# Altium integrated library Renesas Microcontroller R8C.IntLib: 628 symbols (part 22 of 33)
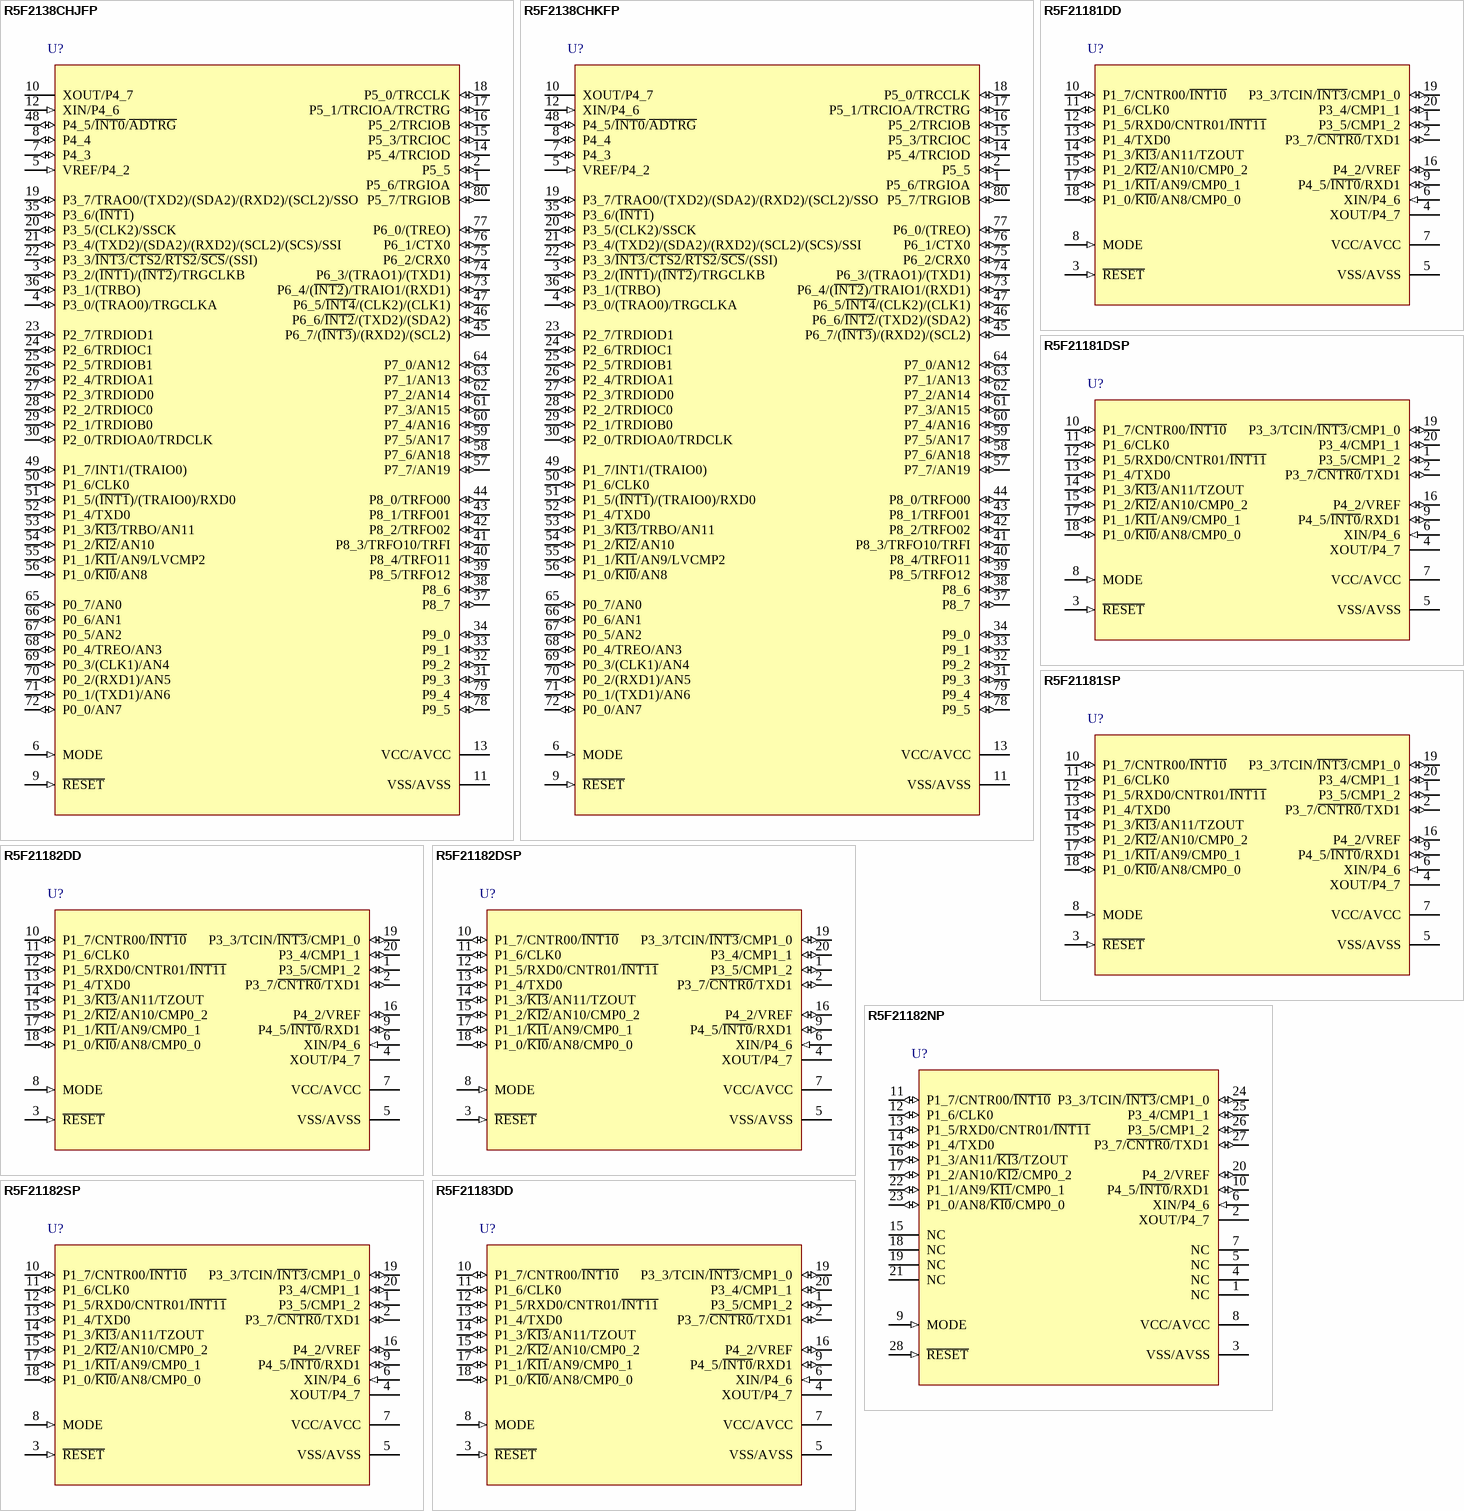
[diagram p137: symbols R5F2138CHJFP to R5F21183DD]

## R5F21182DSP
designator U?
R8C/18 Group Single Chip 16-Bit CMOS MCU, 8K ROM, D Version; Published: 30-Oct-2009; DatasheetVersion: Rev.1.40, Apr-2006; PackageVersion: Sep-2005; PackageReference: PLSP0020JB-A; Publisher: Altium Limited; PackageDescription: 20-Pin Plastic Low Profile Shrink SOP, 6.5 x 4.4 x 1.15 mm Body, 0.65 mm Pitch; Code_JEITA: P-LSSOP20-4.4x6.5-0.65; Code_JEDEC: MO-152-AC; ComponentLink1Description: Manufacturer Link; ComponentLink1URL: http://sg.renesas.com/fmwk.jsp?cnt=r8c_family_landing.jsp&fp=/products/mpumcu/r8c_family/; ComponentLink2Description: Datasheet; ComponentLink2URL: http://documentation.renesas.com/eng/products/mpumcu/rej03b0124_r8c1819ds.pdf; ComponentLink3Description: Packaging Specification; ComponentLink3URL: http://sg.renesas.com/media/products/common_info/package/pdf/ic/code/plsp0020jb_a.pdf
footprint PLSP0020JB-A_N (SOP, 20-Leads, Body 6.5x4.4mm, Pitch 0.65mm, IPC Medium Density)
footprint PLSP0020JB-A_L (SOP, 20-Leads, Body 6.5x4.4mm, Pitch 0.65mm, IPC High Density)
footprint PLSP0020JB-A_M (SOP, 20-Leads, Body 6.5x4.4mm, Pitch 0.65mm, IPC Low Density)
pins: 1 P3_5/CMP1_2 (io), 2 P3_7/~{CNTR0}/TXD1 (io), 3 ~{RESET} (in), 4 XOUT/P4_7, 5 VSS/AVSS (power), 6 XIN/P4_6 (in), 7 VCC/AVCC (power), 8 MODE (in), 9 P4_5/~{INT0}/RXD1 (io), 10 P1_7/CNTR00/~{INT10} (io), 11 P1_6/CLK0 (io), 12 P1_5/RXD0/CNTR01/~{INT11} (io), 13 P1_4/TXD0 (io), 14 P1_3/~{KI3}/AN11/TZOUT (io), 15 P1_2/~{KI2}/AN10/CMP0_2 (io), 16 P4_2/VREF (io), 17 P1_1/~{KI1}/AN9/CMP0_1 (io), 18 P1_0/~{KI0}/AN8/CMP0_0 (io), 19 P3_3/TCIN/~{INT3}/CMP1_0 (io), 20 P3_4/CMP1_1 (io)

## R5F21182NP
designator U?
R8C/18 Group Single Chip 16-Bit CMOS MCU, 8K ROM, Standard Version; Published: 30-Oct-2009; DatasheetVersion: Rev.1.40, Apr-2006; PackageVersion: Jun-2006; PackageReference: PWQN0028KA-B; Publisher: Altium Limited; PackageDescription: 28-Pin Plastic Very-very Thin QFN, 5 x 5 X 0.75 mm Body, 0.5 mm Pitch, Exposed Pad; Code_JEITA: P-HWQFN28-5x5-0.50; ComponentLink1Description: Manufacturer Link; ComponentLink1URL: http://sg.renesas.com/fmwk.jsp?cnt=r8c_family_landing.jsp&fp=/products/mpumcu/r8c_family/; ComponentLink2Description: Datasheet; ComponentLink2URL: http://documentation.renesas.com/eng/products/mpumcu/rej03b0124_r8c1819ds.pdf; ComponentLink3Description: Packaging Specification; ComponentLink3URL: http://sg.renesas.com/media/products/common_info/package/pdf/ic/code/pwqn0028ka_b.pdf
footprint PWQN0028KA-B_N (QFN, 28-Leads, Body 5x5mm, Pitch 0.5mm, IPC Medium Density)
footprint PWQN0028KA-B_L (QFN, 28-Leads, Body 5x5mm, Pitch 0.5mm, IPC High Density)
footprint PWQN0028KA-B_M (QFN, 28-Leads, Body 5x5mm, Pitch 0.5mm, IPC Low Density)
pins: 1 NC, 2 XOUT/P4_7, 3 VSS/AVSS (power), 4 NC, 5 NC, 6 XIN/P4_6 (in), 7 NC, 8 VCC/AVCC (power), 9 MODE (in), 10 P4_5/~{INT0}/RXD1 (io), 11 P1_7/CNTR00/~{INT10} (io), 12 P1_6/CLK0 (io), 13 P1_5/RXD0/CNTR01/~{INT11} (io), 14 P1_4/TXD0 (io), 15 NC, 16 P1_3/AN11/~{KI3}/TZOUT (io), 17 P1_2/AN10/~{KI2}/CMP0_2 (io), 18 NC, 19 NC, 20 P4_2/VREF (io), 21 NC, 22 P1_1/AN9/~{KI1}/CMP0_1 (io), 23 P1_0/AN8/~{KI0}/CMP0_0 (io), 24 P3_3/TCIN/~{INT3}/CMP1_0 (io), 25 P3_4/CMP1_1 (io), 26 P3_5/CMP1_2 (io), 27 P3_7/~{CNTR0}/TXD1 (io), 28 ~{RESET} (in)

## R5F21182SP
designator U?
R8C/18 Group Single Chip 16-Bit CMOS MCU, 8K ROM, Standard Version; Published: 30-Oct-2009; DatasheetVersion: Rev.1.40, Apr-2006; PackageVersion: Sep-2005; PackageReference: PLSP0020JB-A; Publisher: Altium Limited; PackageDescription: 20-Pin Plastic Low Profile Shrink SOP, 6.5 x 4.4 x 1.15 mm Body, 0.65 mm Pitch; Code_JEITA: P-LSSOP20-4.4x6.5-0.65; Code_JEDEC: MO-152-AC; ComponentLink1Description: Manufacturer Link; ComponentLink1URL: http://sg.renesas.com/fmwk.jsp?cnt=r8c_family_landing.jsp&fp=/products/mpumcu/r8c_family/; ComponentLink2Description: Datasheet; ComponentLink2URL: http://documentation.renesas.com/eng/products/mpumcu/rej03b0124_r8c1819ds.pdf; ComponentLink3Description: Packaging Specification; ComponentLink3URL: http://sg.renesas.com/media/products/common_info/package/pdf/ic/code/plsp0020jb_a.pdf
footprint PLSP0020JB-A_N (SOP, 20-Leads, Body 6.5x4.4mm, Pitch 0.65mm, IPC Medium Density)
footprint PLSP0020JB-A_L (SOP, 20-Leads, Body 6.5x4.4mm, Pitch 0.65mm, IPC High Density)
footprint PLSP0020JB-A_M (SOP, 20-Leads, Body 6.5x4.4mm, Pitch 0.65mm, IPC Low Density)
pins: 1 P3_5/CMP1_2 (io), 2 P3_7/~{CNTR0}/TXD1 (io), 3 ~{RESET} (in), 4 XOUT/P4_7, 5 VSS/AVSS (power), 6 XIN/P4_6 (in), 7 VCC/AVCC (power), 8 MODE (in), 9 P4_5/~{INT0}/RXD1 (io), 10 P1_7/CNTR00/~{INT10} (io), 11 P1_6/CLK0 (io), 12 P1_5/RXD0/CNTR01/~{INT11} (io), 13 P1_4/TXD0 (io), 14 P1_3/~{KI3}/AN11/TZOUT (io), 15 P1_2/~{KI2}/AN10/CMP0_2 (io), 16 P4_2/VREF (io), 17 P1_1/~{KI1}/AN9/CMP0_1 (io), 18 P1_0/~{KI0}/AN8/CMP0_0 (io), 19 P3_3/TCIN/~{INT3}/CMP1_0 (io), 20 P3_4/CMP1_1 (io)

## R5F21183DD
designator U?
R8C/18 Group Single Chip 16-Bit CMOS MCU, 12K ROM, Standard Version; Published: 30-Oct-2009; DatasheetVersion: Rev.1.40, Apr-2006; PackageVersion: Sep-2005; PackageReference: PRDP0020BA-A; Publisher: Altium Limited; PackageDescription: 20-Pin Plastic Shrink DIP, 19 x 6.3 mm Body, 7.62 mm Row Spacing, 1.778 mm Pitch; Code_JEITA: P-SDIP20-6.3x19-1.78; ComponentLink1Description: Manufacturer Link; ComponentLink1URL: http://sg.renesas.com/fmwk.jsp?cnt=r8c_family_landing.jsp&fp=/products/mpumcu/r8c_family/; ComponentLink2Description: Datasheet; ComponentLink2URL: http://documentation.renesas.com/eng/products/mpumcu/rej03b0124_r8c1819ds.pdf; ComponentLink3Description: Packaging Specification; ComponentLink3URL: http://sg.renesas.com/media/products/common_info/package/pdf/ic/code/prdp0020ba_a.pdf
footprint PRDP0020BA-A (DIP, 20-Leads, Row Spacing 7.62mm, Pitch 1.778mm, Body 19x6.3mm)
pins: 1 P3_5/CMP1_2 (io), 2 P3_7/~{CNTR0}/TXD1 (io), 3 ~{RESET} (in), 4 XOUT/P4_7, 5 VSS/AVSS (power), 6 XIN/P4_6 (in), 7 VCC/AVCC (power), 8 MODE (in), 9 P4_5/~{INT0}/RXD1 (io), 10 P1_7/CNTR00/~{INT10} (io), 11 P1_6/CLK0 (io), 12 P1_5/RXD0/CNTR01/~{INT11} (io), 13 P1_4/TXD0 (io), 14 P1_3/~{KI3}/AN11/TZOUT (io), 15 P1_2/~{KI2}/AN10/CMP0_2 (io), 16 P4_2/VREF (io), 17 P1_1/~{KI1}/AN9/CMP0_1 (io), 18 P1_0/~{KI0}/AN8/CMP0_0 (io), 19 P3_3/TCIN/~{INT3}/CMP1_0 (io), 20 P3_4/CMP1_1 (io)

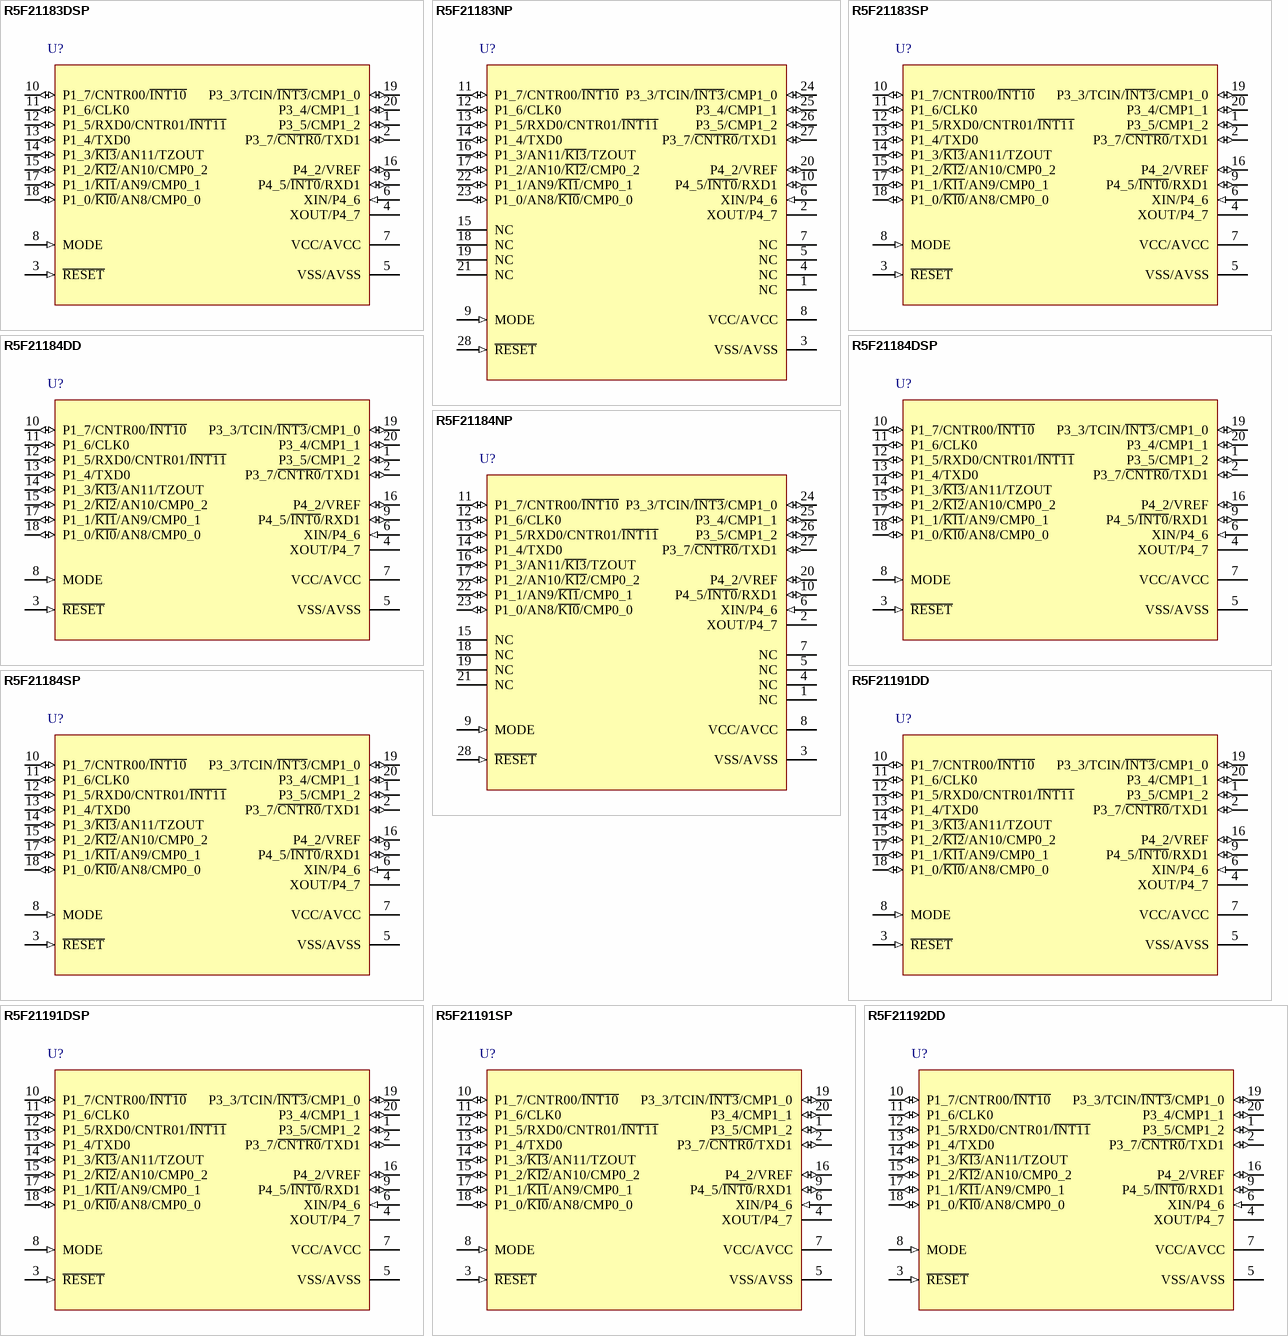
[diagram p77: symbols R5F21183DSP to R5F21192DD]

## R5F21183DSP
designator U?
R8C/18 Group Single Chip 16-Bit CMOS MCU, 12K ROM, D Version; Published: 30-Oct-2009; DatasheetVersion: Rev.1.40, Apr-2006; PackageVersion: Sep-2005; PackageReference: PLSP0020JB-A; Publisher: Altium Limited; PackageDescription: 20-Pin Plastic Low Profile Shrink SOP, 6.5 x 4.4 x 1.15 mm Body, 0.65 mm Pitch; Code_JEITA: P-LSSOP20-4.4x6.5-0.65; Code_JEDEC: MO-152-AC; ComponentLink1Description: Manufacturer Link; ComponentLink1URL: http://sg.renesas.com/fmwk.jsp?cnt=r8c_family_landing.jsp&fp=/products/mpumcu/r8c_family/; ComponentLink2Description: Datasheet; ComponentLink2URL: http://documentation.renesas.com/eng/products/mpumcu/rej03b0124_r8c1819ds.pdf; ComponentLink3Description: Packaging Specification; ComponentLink3URL: http://sg.renesas.com/media/products/common_info/package/pdf/ic/code/plsp0020jb_a.pdf
footprint PLSP0020JB-A_N (SOP, 20-Leads, Body 6.5x4.4mm, Pitch 0.65mm, IPC Medium Density)
footprint PLSP0020JB-A_L (SOP, 20-Leads, Body 6.5x4.4mm, Pitch 0.65mm, IPC High Density)
footprint PLSP0020JB-A_M (SOP, 20-Leads, Body 6.5x4.4mm, Pitch 0.65mm, IPC Low Density)
pins: 1 P3_5/CMP1_2 (io), 2 P3_7/~{CNTR0}/TXD1 (io), 3 ~{RESET} (in), 4 XOUT/P4_7, 5 VSS/AVSS (power), 6 XIN/P4_6 (in), 7 VCC/AVCC (power), 8 MODE (in), 9 P4_5/~{INT0}/RXD1 (io), 10 P1_7/CNTR00/~{INT10} (io), 11 P1_6/CLK0 (io), 12 P1_5/RXD0/CNTR01/~{INT11} (io), 13 P1_4/TXD0 (io), 14 P1_3/~{KI3}/AN11/TZOUT (io), 15 P1_2/~{KI2}/AN10/CMP0_2 (io), 16 P4_2/VREF (io), 17 P1_1/~{KI1}/AN9/CMP0_1 (io), 18 P1_0/~{KI0}/AN8/CMP0_0 (io), 19 P3_3/TCIN/~{INT3}/CMP1_0 (io), 20 P3_4/CMP1_1 (io)

## R5F21183NP
designator U?
R8C/18 Group Single Chip 16-Bit CMOS MCU, 12K ROM, Standard Version; Published: 30-Oct-2009; DatasheetVersion: Rev.1.40, Apr-2006; PackageVersion: Jun-2006; PackageReference: PWQN0028KA-B; Publisher: Altium Limited; PackageDescription: 28-Pin Plastic Very-very Thin QFN, 5 x 5 X 0.75 mm Body, 0.5 mm Pitch, Exposed Pad; Code_JEITA: P-HWQFN28-5x5-0.50; ComponentLink1Description: Manufacturer Link; ComponentLink1URL: http://sg.renesas.com/fmwk.jsp?cnt=r8c_family_landing.jsp&fp=/products/mpumcu/r8c_family/; ComponentLink2Description: Datasheet; ComponentLink2URL: http://documentation.renesas.com/eng/products/mpumcu/rej03b0124_r8c1819ds.pdf; ComponentLink3Description: Packaging Specification; ComponentLink3URL: http://sg.renesas.com/media/products/common_info/package/pdf/ic/code/pwqn0028ka_b.pdf
footprint PWQN0028KA-B_N (QFN, 28-Leads, Body 5x5mm, Pitch 0.5mm, IPC Medium Density)
footprint PWQN0028KA-B_L (QFN, 28-Leads, Body 5x5mm, Pitch 0.5mm, IPC High Density)
footprint PWQN0028KA-B_M (QFN, 28-Leads, Body 5x5mm, Pitch 0.5mm, IPC Low Density)
pins: 1 NC, 2 XOUT/P4_7, 3 VSS/AVSS (power), 4 NC, 5 NC, 6 XIN/P4_6 (in), 7 NC, 8 VCC/AVCC (power), 9 MODE (in), 10 P4_5/~{INT0}/RXD1 (io), 11 P1_7/CNTR00/~{INT10} (io), 12 P1_6/CLK0 (io), 13 P1_5/RXD0/CNTR01/~{INT11} (io), 14 P1_4/TXD0 (io), 15 NC, 16 P1_3/AN11/~{KI3}/TZOUT (io), 17 P1_2/AN10/~{KI2}/CMP0_2 (io), 18 NC, 19 NC, 20 P4_2/VREF (io), 21 NC, 22 P1_1/AN9/~{KI1}/CMP0_1 (io), 23 P1_0/AN8/~{KI0}/CMP0_0 (io), 24 P3_3/TCIN/~{INT3}/CMP1_0 (io), 25 P3_4/CMP1_1 (io), 26 P3_5/CMP1_2 (io), 27 P3_7/~{CNTR0}/TXD1 (io), 28 ~{RESET} (in)

## R5F21183SP
designator U?
R8C/18 Group Single Chip 16-Bit CMOS MCU, 12K ROM, Standard Version; Published: 30-Oct-2009; DatasheetVersion: Rev.1.40, Apr-2006; PackageVersion: Sep-2005; PackageReference: PLSP0020JB-A; Publisher: Altium Limited; PackageDescription: 20-Pin Plastic Low Profile Shrink SOP, 6.5 x 4.4 x 1.15 mm Body, 0.65 mm Pitch; Code_JEITA: P-LSSOP20-4.4x6.5-0.65; Code_JEDEC: MO-152-AC; ComponentLink1Description: Manufacturer Link; ComponentLink1URL: http://sg.renesas.com/fmwk.jsp?cnt=r8c_family_landing.jsp&fp=/products/mpumcu/r8c_family/; ComponentLink2Description: Datasheet; ComponentLink2URL: http://documentation.renesas.com/eng/products/mpumcu/rej03b0124_r8c1819ds.pdf; ComponentLink3Description: Packaging Specification; ComponentLink3URL: http://sg.renesas.com/media/products/common_info/package/pdf/ic/code/plsp0020jb_a.pdf
footprint PLSP0020JB-A_N (SOP, 20-Leads, Body 6.5x4.4mm, Pitch 0.65mm, IPC Medium Density)
footprint PLSP0020JB-A_L (SOP, 20-Leads, Body 6.5x4.4mm, Pitch 0.65mm, IPC High Density)
footprint PLSP0020JB-A_M (SOP, 20-Leads, Body 6.5x4.4mm, Pitch 0.65mm, IPC Low Density)
pins: 1 P3_5/CMP1_2 (io), 2 P3_7/~{CNTR0}/TXD1 (io), 3 ~{RESET} (in), 4 XOUT/P4_7, 5 VSS/AVSS (power), 6 XIN/P4_6 (in), 7 VCC/AVCC (power), 8 MODE (in), 9 P4_5/~{INT0}/RXD1 (io), 10 P1_7/CNTR00/~{INT10} (io), 11 P1_6/CLK0 (io), 12 P1_5/RXD0/CNTR01/~{INT11} (io), 13 P1_4/TXD0 (io), 14 P1_3/~{KI3}/AN11/TZOUT (io), 15 P1_2/~{KI2}/AN10/CMP0_2 (io), 16 P4_2/VREF (io), 17 P1_1/~{KI1}/AN9/CMP0_1 (io), 18 P1_0/~{KI0}/AN8/CMP0_0 (io), 19 P3_3/TCIN/~{INT3}/CMP1_0 (io), 20 P3_4/CMP1_1 (io)

## R5F21184DD
designator U?
R8C/18 Group Single Chip 16-Bit CMOS MCU, 16K ROM, Standard Version; Published: 30-Oct-2009; DatasheetVersion: Rev.1.40, Apr-2006; PackageVersion: Sep-2005; PackageReference: PRDP0020BA-A; Publisher: Altium Limited; PackageDescription: 20-Pin Plastic Shrink DIP, 19 x 6.3 mm Body, 7.62 mm Row Spacing, 1.778 mm Pitch; Code_JEITA: P-SDIP20-6.3x19-1.78; ComponentLink1Description: Manufacturer Link; ComponentLink1URL: http://sg.renesas.com/fmwk.jsp?cnt=r8c_family_landing.jsp&fp=/products/mpumcu/r8c_family/; ComponentLink2Description: Datasheet; ComponentLink2URL: http://documentation.renesas.com/eng/products/mpumcu/rej03b0124_r8c1819ds.pdf; ComponentLink3Description: Packaging Specification; ComponentLink3URL: http://sg.renesas.com/media/products/common_info/package/pdf/ic/code/prdp0020ba_a.pdf
footprint PRDP0020BA-A (DIP, 20-Leads, Row Spacing 7.62mm, Pitch 1.778mm, Body 19x6.3mm)
pins: 1 P3_5/CMP1_2 (io), 2 P3_7/~{CNTR0}/TXD1 (io), 3 ~{RESET} (in), 4 XOUT/P4_7, 5 VSS/AVSS (power), 6 XIN/P4_6 (in), 7 VCC/AVCC (power), 8 MODE (in), 9 P4_5/~{INT0}/RXD1 (io), 10 P1_7/CNTR00/~{INT10} (io), 11 P1_6/CLK0 (io), 12 P1_5/RXD0/CNTR01/~{INT11} (io), 13 P1_4/TXD0 (io), 14 P1_3/~{KI3}/AN11/TZOUT (io), 15 P1_2/~{KI2}/AN10/CMP0_2 (io), 16 P4_2/VREF (io), 17 P1_1/~{KI1}/AN9/CMP0_1 (io), 18 P1_0/~{KI0}/AN8/CMP0_0 (io), 19 P3_3/TCIN/~{INT3}/CMP1_0 (io), 20 P3_4/CMP1_1 (io)

## R5F21184DSP
designator U?
R8C/18 Group Single Chip 16-Bit CMOS MCU, 16K ROM, D Version; Published: 30-Oct-2009; DatasheetVersion: Rev.1.40, Apr-2006; PackageVersion: Sep-2005; PackageReference: PLSP0020JB-A; Publisher: Altium Limited; PackageDescription: 20-Pin Plastic Low Profile Shrink SOP, 6.5 x 4.4 x 1.15 mm Body, 0.65 mm Pitch; Code_JEITA: P-LSSOP20-4.4x6.5-0.65; Code_JEDEC: MO-152-AC; ComponentLink1Description: Manufacturer Link; ComponentLink1URL: http://sg.renesas.com/fmwk.jsp?cnt=r8c_family_landing.jsp&fp=/products/mpumcu/r8c_family/; ComponentLink2Description: Datasheet; ComponentLink2URL: http://documentation.renesas.com/eng/products/mpumcu/rej03b0124_r8c1819ds.pdf; ComponentLink3Description: Packaging Specification; ComponentLink3URL: http://sg.renesas.com/media/products/common_info/package/pdf/ic/code/plsp0020jb_a.pdf
footprint PLSP0020JB-A_N (SOP, 20-Leads, Body 6.5x4.4mm, Pitch 0.65mm, IPC Medium Density)
footprint PLSP0020JB-A_L (SOP, 20-Leads, Body 6.5x4.4mm, Pitch 0.65mm, IPC High Density)
footprint PLSP0020JB-A_M (SOP, 20-Leads, Body 6.5x4.4mm, Pitch 0.65mm, IPC Low Density)
pins: 1 P3_5/CMP1_2 (io), 2 P3_7/~{CNTR0}/TXD1 (io), 3 ~{RESET} (in), 4 XOUT/P4_7, 5 VSS/AVSS (power), 6 XIN/P4_6 (in), 7 VCC/AVCC (power), 8 MODE (in), 9 P4_5/~{INT0}/RXD1 (io), 10 P1_7/CNTR00/~{INT10} (io), 11 P1_6/CLK0 (io), 12 P1_5/RXD0/CNTR01/~{INT11} (io), 13 P1_4/TXD0 (io), 14 P1_3/~{KI3}/AN11/TZOUT (io), 15 P1_2/~{KI2}/AN10/CMP0_2 (io), 16 P4_2/VREF (io), 17 P1_1/~{KI1}/AN9/CMP0_1 (io), 18 P1_0/~{KI0}/AN8/CMP0_0 (io), 19 P3_3/TCIN/~{INT3}/CMP1_0 (io), 20 P3_4/CMP1_1 (io)

## R5F21184NP
designator U?
R8C/18 Group Single Chip 16-Bit CMOS MCU, 16K ROM, Standard Version; Published: 30-Oct-2009; DatasheetVersion: Rev.1.40, Apr-2006; PackageVersion: Jun-2006; PackageReference: PWQN0028KA-B; Publisher: Altium Limited; PackageDescription: 28-Pin Plastic Very-very Thin QFN, 5 x 5 X 0.75 mm Body, 0.5 mm Pitch, Exposed Pad; Code_JEITA: P-HWQFN28-5x5-0.50; ComponentLink1Description: Manufacturer Link; ComponentLink1URL: http://sg.renesas.com/fmwk.jsp?cnt=r8c_family_landing.jsp&fp=/products/mpumcu/r8c_family/; ComponentLink2Description: Datasheet; ComponentLink2URL: http://documentation.renesas.com/eng/products/mpumcu/rej03b0124_r8c1819ds.pdf; ComponentLink3Description: Packaging Specification; ComponentLink3URL: http://sg.renesas.com/media/products/common_info/package/pdf/ic/code/pwqn0028ka_b.pdf
footprint PWQN0028KA-B_N (QFN, 28-Leads, Body 5x5mm, Pitch 0.5mm, IPC Medium Density)
footprint PWQN0028KA-B_L (QFN, 28-Leads, Body 5x5mm, Pitch 0.5mm, IPC High Density)
footprint PWQN0028KA-B_M (QFN, 28-Leads, Body 5x5mm, Pitch 0.5mm, IPC Low Density)
pins: 1 NC, 2 XOUT/P4_7, 3 VSS/AVSS (power), 4 NC, 5 NC, 6 XIN/P4_6 (in), 7 NC, 8 VCC/AVCC (power), 9 MODE (in), 10 P4_5/~{INT0}/RXD1 (io), 11 P1_7/CNTR00/~{INT10} (io), 12 P1_6/CLK0 (io), 13 P1_5/RXD0/CNTR01/~{INT11} (io), 14 P1_4/TXD0 (io), 15 NC, 16 P1_3/AN11/~{KI3}/TZOUT (io), 17 P1_2/AN10/~{KI2}/CMP0_2 (io), 18 NC, 19 NC, 20 P4_2/VREF (io), 21 NC, 22 P1_1/AN9/~{KI1}/CMP0_1 (io), 23 P1_0/AN8/~{KI0}/CMP0_0 (io), 24 P3_3/TCIN/~{INT3}/CMP1_0 (io), 25 P3_4/CMP1_1 (io), 26 P3_5/CMP1_2 (io), 27 P3_7/~{CNTR0}/TXD1 (io), 28 ~{RESET} (in)

## R5F21184SP
designator U?
R8C/18 Group Single Chip 16-Bit CMOS MCU, 16K ROM, Standard Version; Published: 30-Oct-2009; DatasheetVersion: Rev.1.40, Apr-2006; PackageVersion: Sep-2005; PackageReference: PLSP0020JB-A; Publisher: Altium Limited; PackageDescription: 20-Pin Plastic Low Profile Shrink SOP, 6.5 x 4.4 x 1.15 mm Body, 0.65 mm Pitch; Code_JEITA: P-LSSOP20-4.4x6.5-0.65; Code_JEDEC: MO-152-AC; ComponentLink1Description: Manufacturer Link; ComponentLink1URL: http://sg.renesas.com/fmwk.jsp?cnt=r8c_family_landing.jsp&fp=/products/mpumcu/r8c_family/; ComponentLink2Description: Datasheet; ComponentLink2URL: http://documentation.renesas.com/eng/products/mpumcu/rej03b0124_r8c1819ds.pdf; ComponentLink3Description: Packaging Specification; ComponentLink3URL: http://sg.renesas.com/media/products/common_info/package/pdf/ic/code/plsp0020jb_a.pdf
footprint PLSP0020JB-A_N (SOP, 20-Leads, Body 6.5x4.4mm, Pitch 0.65mm, IPC Medium Density)
footprint PLSP0020JB-A_L (SOP, 20-Leads, Body 6.5x4.4mm, Pitch 0.65mm, IPC High Density)
footprint PLSP0020JB-A_M (SOP, 20-Leads, Body 6.5x4.4mm, Pitch 0.65mm, IPC Low Density)
pins: 1 P3_5/CMP1_2 (io), 2 P3_7/~{CNTR0}/TXD1 (io), 3 ~{RESET} (in), 4 XOUT/P4_7, 5 VSS/AVSS (power), 6 XIN/P4_6 (in), 7 VCC/AVCC (power), 8 MODE (in), 9 P4_5/~{INT0}/RXD1 (io), 10 P1_7/CNTR00/~{INT10} (io), 11 P1_6/CLK0 (io), 12 P1_5/RXD0/CNTR01/~{INT11} (io), 13 P1_4/TXD0 (io), 14 P1_3/~{KI3}/AN11/TZOUT (io), 15 P1_2/~{KI2}/AN10/CMP0_2 (io), 16 P4_2/VREF (io), 17 P1_1/~{KI1}/AN9/CMP0_1 (io), 18 P1_0/~{KI0}/AN8/CMP0_0 (io), 19 P3_3/TCIN/~{INT3}/CMP1_0 (io), 20 P3_4/CMP1_1 (io)

## R5F21191DD
designator U?
R8C/19 Group Single Chip 16-Bit CMOS MCU, 4K ROM + 1K x2 Data Flash, Standard Version; Published: 30-Oct-2009; DatasheetVersion: Rev.1.40, Apr-2006; PackageVersion: Sep-2005; PackageReference: PRDP0020BA-A; Publisher: Altium Limited; PackageDescription: 20-Pin Plastic Shrink DIP, 19 x 6.3 mm Body, 7.62 mm Row Spacing, 1.778 mm Pitch; Code_JEITA: P-SDIP20-6.3x19-1.78; ComponentLink1Description: Manufacturer Link; ComponentLink1URL: http://sg.renesas.com/fmwk.jsp?cnt=r8c_family_landing.jsp&fp=/products/mpumcu/r8c_family/; ComponentLink2Description: Datasheet; ComponentLink2URL: http://documentation.renesas.com/eng/products/mpumcu/rej03b0124_r8c1819ds.pdf; ComponentLink3Description: Packaging Specification; ComponentLink3URL: http://sg.renesas.com/media/products/common_info/package/pdf/ic/code/prdp0020ba_a.pdf
footprint PRDP0020BA-A (DIP, 20-Leads, Row Spacing 7.62mm, Pitch 1.778mm, Body 19x6.3mm)
pins: 1 P3_5/CMP1_2 (io), 2 P3_7/~{CNTR0}/TXD1 (io), 3 ~{RESET} (in), 4 XOUT/P4_7, 5 VSS/AVSS (power), 6 XIN/P4_6 (in), 7 VCC/AVCC (power), 8 MODE (in), 9 P4_5/~{INT0}/RXD1 (io), 10 P1_7/CNTR00/~{INT10} (io), 11 P1_6/CLK0 (io), 12 P1_5/RXD0/CNTR01/~{INT11} (io), 13 P1_4/TXD0 (io), 14 P1_3/~{KI3}/AN11/TZOUT (io), 15 P1_2/~{KI2}/AN10/CMP0_2 (io), 16 P4_2/VREF (io), 17 P1_1/~{KI1}/AN9/CMP0_1 (io), 18 P1_0/~{KI0}/AN8/CMP0_0 (io), 19 P3_3/TCIN/~{INT3}/CMP1_0 (io), 20 P3_4/CMP1_1 (io)

## R5F21191DSP
designator U?
R8C/19 Group Single Chip 16-Bit CMOS MCU, 4K ROM + 1K x2 Data Flash, D Version; Published: 30-Oct-2009; DatasheetVersion: Rev.1.40, Apr-2006; PackageVersion: Sep-2005; PackageReference: PLSP0020JB-A; Publisher: Altium Limited; PackageDescription: 20-Pin Plastic Low Profile Shrink SOP, 6.5 x 4.4 x 1.15 mm Body, 0.65 mm Pitch; Code_JEITA: P-LSSOP20-4.4x6.5-0.65; Code_JEDEC: MO-152-AC; ComponentLink1Description: Manufacturer Link; ComponentLink1URL: http://sg.renesas.com/fmwk.jsp?cnt=r8c_family_landing.jsp&fp=/products/mpumcu/r8c_family/; ComponentLink2Description: Datasheet; ComponentLink2URL: http://documentation.renesas.com/eng/products/mpumcu/rej03b0124_r8c1819ds.pdf; ComponentLink3Description: Packaging Specification; ComponentLink3URL: http://sg.renesas.com/media/products/common_info/package/pdf/ic/code/plsp0020jb_a.pdf
footprint PLSP0020JB-A_N (SOP, 20-Leads, Body 6.5x4.4mm, Pitch 0.65mm, IPC Medium Density)
footprint PLSP0020JB-A_L (SOP, 20-Leads, Body 6.5x4.4mm, Pitch 0.65mm, IPC High Density)
footprint PLSP0020JB-A_M (SOP, 20-Leads, Body 6.5x4.4mm, Pitch 0.65mm, IPC Low Density)
pins: 1 P3_5/CMP1_2 (io), 2 P3_7/~{CNTR0}/TXD1 (io), 3 ~{RESET} (in), 4 XOUT/P4_7, 5 VSS/AVSS (power), 6 XIN/P4_6 (in), 7 VCC/AVCC (power), 8 MODE (in), 9 P4_5/~{INT0}/RXD1 (io), 10 P1_7/CNTR00/~{INT10} (io), 11 P1_6/CLK0 (io), 12 P1_5/RXD0/CNTR01/~{INT11} (io), 13 P1_4/TXD0 (io), 14 P1_3/~{KI3}/AN11/TZOUT (io), 15 P1_2/~{KI2}/AN10/CMP0_2 (io), 16 P4_2/VREF (io), 17 P1_1/~{KI1}/AN9/CMP0_1 (io), 18 P1_0/~{KI0}/AN8/CMP0_0 (io), 19 P3_3/TCIN/~{INT3}/CMP1_0 (io), 20 P3_4/CMP1_1 (io)

## R5F21191SP
designator U?
R8C/19 Group Single Chip 16-Bit CMOS MCU, 4K ROM + 1K x2 Data Flash, Standard Version; Published: 30-Oct-2009; DatasheetVersion: Rev.1.40, Apr-2006; PackageVersion: Sep-2005; PackageReference: PLSP0020JB-A; Publisher: Altium Limited; PackageDescription: 20-Pin Plastic Low Profile Shrink SOP, 6.5 x 4.4 x 1.15 mm Body, 0.65 mm Pitch; Code_JEITA: P-LSSOP20-4.4x6.5-0.65; Code_JEDEC: MO-152-AC; ComponentLink1Description: Manufacturer Link; ComponentLink1URL: http://sg.renesas.com/fmwk.jsp?cnt=r8c_family_landing.jsp&fp=/products/mpumcu/r8c_family/; ComponentLink2Description: Datasheet; ComponentLink2URL: http://documentation.renesas.com/eng/products/mpumcu/rej03b0124_r8c1819ds.pdf; ComponentLink3Description: Packaging Specification; ComponentLink3URL: http://sg.renesas.com/media/products/common_info/package/pdf/ic/code/plsp0020jb_a.pdf
footprint PLSP0020JB-A_N (SOP, 20-Leads, Body 6.5x4.4mm, Pitch 0.65mm, IPC Medium Density)
footprint PLSP0020JB-A_L (SOP, 20-Leads, Body 6.5x4.4mm, Pitch 0.65mm, IPC High Density)
footprint PLSP0020JB-A_M (SOP, 20-Leads, Body 6.5x4.4mm, Pitch 0.65mm, IPC Low Density)
pins: 1 P3_5/CMP1_2 (io), 2 P3_7/~{CNTR0}/TXD1 (io), 3 ~{RESET} (in), 4 XOUT/P4_7, 5 VSS/AVSS (power), 6 XIN/P4_6 (in), 7 VCC/AVCC (power), 8 MODE (in), 9 P4_5/~{INT0}/RXD1 (io), 10 P1_7/CNTR00/~{INT10} (io), 11 P1_6/CLK0 (io), 12 P1_5/RXD0/CNTR01/~{INT11} (io), 13 P1_4/TXD0 (io), 14 P1_3/~{KI3}/AN11/TZOUT (io), 15 P1_2/~{KI2}/AN10/CMP0_2 (io), 16 P4_2/VREF (io), 17 P1_1/~{KI1}/AN9/CMP0_1 (io), 18 P1_0/~{KI0}/AN8/CMP0_0 (io), 19 P3_3/TCIN/~{INT3}/CMP1_0 (io), 20 P3_4/CMP1_1 (io)

## R5F21192DD
designator U?
R8C/19 Group Single Chip 16-Bit CMOS MCU, 8K ROM + 1K x2 Data Flash, Standard Version; Published: 30-Oct-2009; DatasheetVersion: Rev.1.40, Apr-2006; PackageVersion: Sep-2005; PackageReference: PRDP0020BA-A; Publisher: Altium Limited; PackageDescription: 20-Pin Plastic Shrink DIP, 19 x 6.3 mm Body, 7.62 mm Row Spacing, 1.778 mm Pitch; Code_JEITA: P-SDIP20-6.3x19-1.78; ComponentLink1Description: Manufacturer Link; ComponentLink1URL: http://sg.renesas.com/fmwk.jsp?cnt=r8c_family_landing.jsp&fp=/products/mpumcu/r8c_family/; ComponentLink2Description: Datasheet; ComponentLink2URL: http://documentation.renesas.com/eng/products/mpumcu/rej03b0124_r8c1819ds.pdf; ComponentLink3Description: Packaging Specification; ComponentLink3URL: http://sg.renesas.com/media/products/common_info/package/pdf/ic/code/prdp0020ba_a.pdf
footprint PRDP0020BA-A (DIP, 20-Leads, Row Spacing 7.62mm, Pitch 1.778mm, Body 19x6.3mm)
pins: 1 P3_5/CMP1_2 (io), 2 P3_7/~{CNTR0}/TXD1 (io), 3 ~{RESET} (in), 4 XOUT/P4_7, 5 VSS/AVSS (power), 6 XIN/P4_6 (in), 7 VCC/AVCC (power), 8 MODE (in), 9 P4_5/~{INT0}/RXD1 (io), 10 P1_7/CNTR00/~{INT10} (io), 11 P1_6/CLK0 (io), 12 P1_5/RXD0/CNTR01/~{INT11} (io), 13 P1_4/TXD0 (io), 14 P1_3/~{KI3}/AN11/TZOUT (io), 15 P1_2/~{KI2}/AN10/CMP0_2 (io), 16 P4_2/VREF (io), 17 P1_1/~{KI1}/AN9/CMP0_1 (io), 18 P1_0/~{KI0}/AN8/CMP0_0 (io), 19 P3_3/TCIN/~{INT3}/CMP1_0 (io), 20 P3_4/CMP1_1 (io)

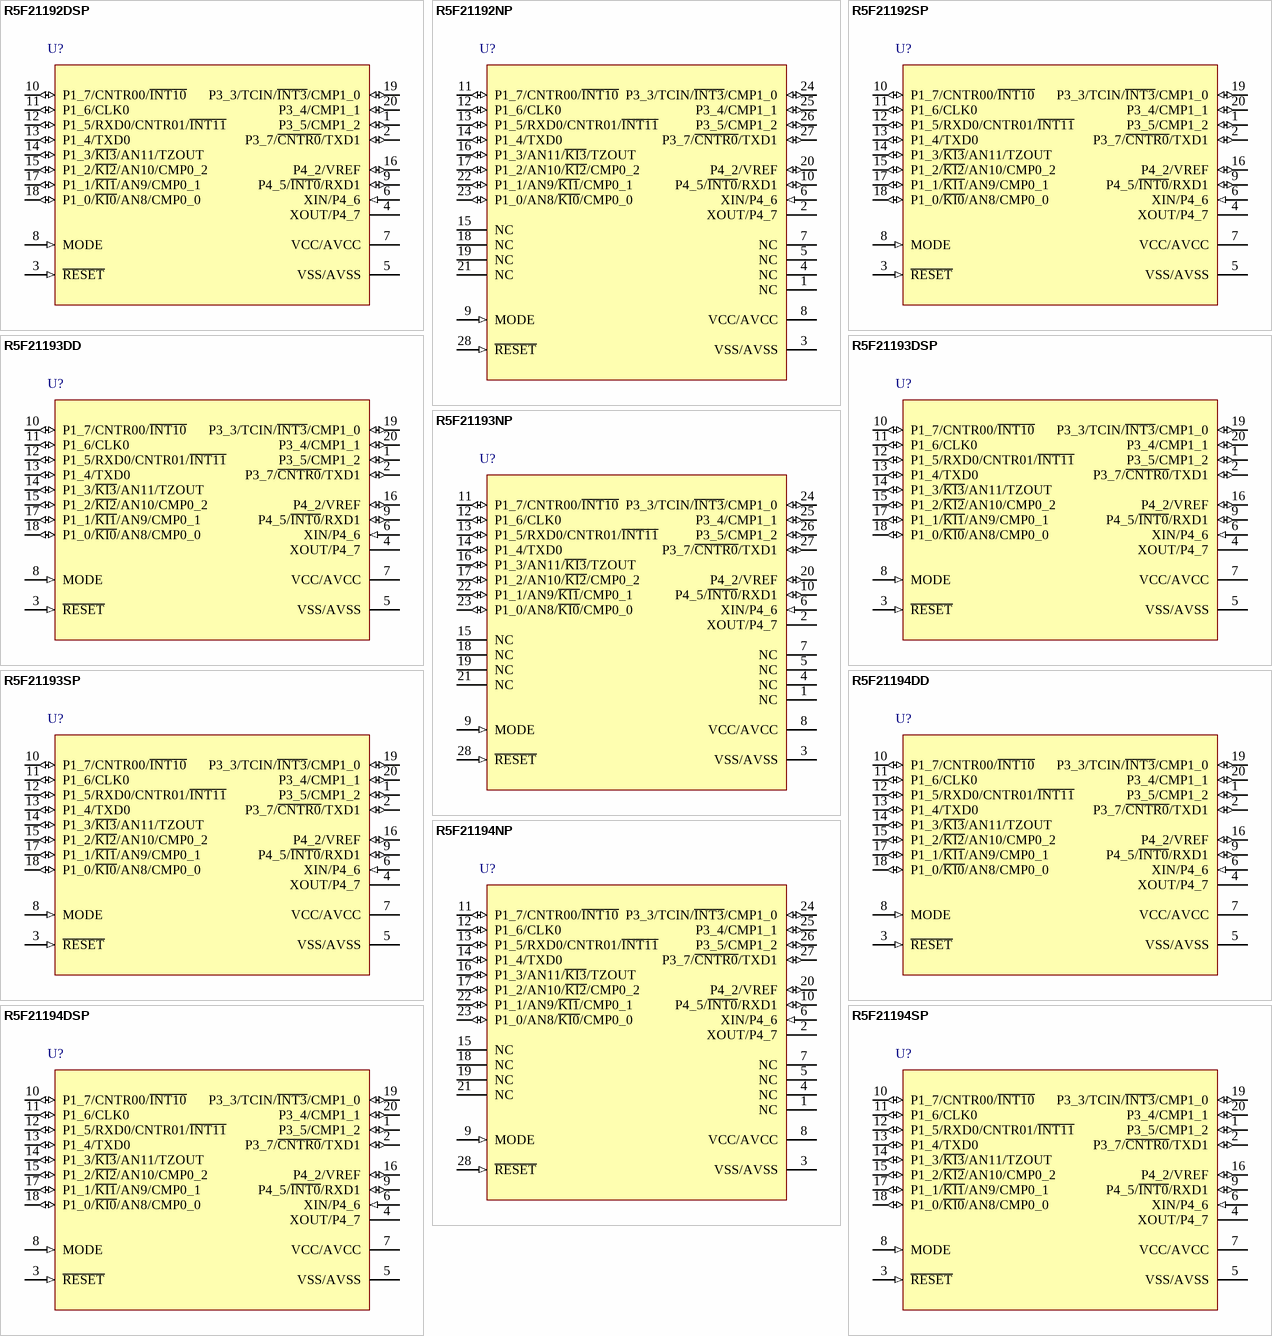
[diagram p78: symbols R5F21192DSP to R5F21194SP]

## R5F21192DSP
designator U?
R8C/19 Group Single Chip 16-Bit CMOS MCU, 8K ROM + 1K x2 Data Flash, D Version; Published: 30-Oct-2009; DatasheetVersion: Rev.1.40, Apr-2006; PackageVersion: Sep-2005; PackageReference: PLSP0020JB-A; Publisher: Altium Limited; PackageDescription: 20-Pin Plastic Low Profile Shrink SOP, 6.5 x 4.4 x 1.15 mm Body, 0.65 mm Pitch; Code_JEITA: P-LSSOP20-4.4x6.5-0.65; Code_JEDEC: MO-152-AC; ComponentLink1Description: Manufacturer Link; ComponentLink1URL: http://sg.renesas.com/fmwk.jsp?cnt=r8c_family_landing.jsp&fp=/products/mpumcu/r8c_family/; ComponentLink2Description: Datasheet; ComponentLink2URL: http://documentation.renesas.com/eng/products/mpumcu/rej03b0124_r8c1819ds.pdf; ComponentLink3Description: Packaging Specification; ComponentLink3URL: http://sg.renesas.com/media/products/common_info/package/pdf/ic/code/plsp0020jb_a.pdf
footprint PLSP0020JB-A_N (SOP, 20-Leads, Body 6.5x4.4mm, Pitch 0.65mm, IPC Medium Density)
footprint PLSP0020JB-A_L (SOP, 20-Leads, Body 6.5x4.4mm, Pitch 0.65mm, IPC High Density)
footprint PLSP0020JB-A_M (SOP, 20-Leads, Body 6.5x4.4mm, Pitch 0.65mm, IPC Low Density)
pins: 1 P3_5/CMP1_2 (io), 2 P3_7/~{CNTR0}/TXD1 (io), 3 ~{RESET} (in), 4 XOUT/P4_7, 5 VSS/AVSS (power), 6 XIN/P4_6 (in), 7 VCC/AVCC (power), 8 MODE (in), 9 P4_5/~{INT0}/RXD1 (io), 10 P1_7/CNTR00/~{INT10} (io), 11 P1_6/CLK0 (io), 12 P1_5/RXD0/CNTR01/~{INT11} (io), 13 P1_4/TXD0 (io), 14 P1_3/~{KI3}/AN11/TZOUT (io), 15 P1_2/~{KI2}/AN10/CMP0_2 (io), 16 P4_2/VREF (io), 17 P1_1/~{KI1}/AN9/CMP0_1 (io), 18 P1_0/~{KI0}/AN8/CMP0_0 (io), 19 P3_3/TCIN/~{INT3}/CMP1_0 (io), 20 P3_4/CMP1_1 (io)

## R5F21192NP
designator U?
R8C/19 Group Single Chip 16-Bit CMOS MCU, 8K ROM + 1K x2 Data Flash, Standard Version; Published: 30-Oct-2009; DatasheetVersion: Rev.1.40, Apr-2006; PackageVersion: Jun-2006; PackageReference: PWQN0028KA-B; Publisher: Altium Limited; PackageDescription: 28-Pin Plastic Very-very Thin QFN, 5 x 5 X 0.75 mm Body, 0.5 mm Pitch, Exposed Pad; Code_JEITA: P-HWQFN28-5x5-0.50; ComponentLink1Description: Manufacturer Link; ComponentLink1URL: http://sg.renesas.com/fmwk.jsp?cnt=r8c_family_landing.jsp&fp=/products/mpumcu/r8c_family/; ComponentLink2Description: Datasheet; ComponentLink2URL: http://documentation.renesas.com/eng/products/mpumcu/rej03b0124_r8c1819ds.pdf; ComponentLink3Description: Packaging Specification; ComponentLink3URL: http://sg.renesas.com/media/products/common_info/package/pdf/ic/code/pwqn0028ka_b.pdf
footprint PWQN0028KA-B_N (QFN, 28-Leads, Body 5x5mm, Pitch 0.5mm, IPC Medium Density)
footprint PWQN0028KA-B_L (QFN, 28-Leads, Body 5x5mm, Pitch 0.5mm, IPC High Density)
footprint PWQN0028KA-B_M (QFN, 28-Leads, Body 5x5mm, Pitch 0.5mm, IPC Low Density)
pins: 1 NC, 2 XOUT/P4_7, 3 VSS/AVSS (power), 4 NC, 5 NC, 6 XIN/P4_6 (in), 7 NC, 8 VCC/AVCC (power), 9 MODE (in), 10 P4_5/~{INT0}/RXD1 (io), 11 P1_7/CNTR00/~{INT10} (io), 12 P1_6/CLK0 (io), 13 P1_5/RXD0/CNTR01/~{INT11} (io), 14 P1_4/TXD0 (io), 15 NC, 16 P1_3/AN11/~{KI3}/TZOUT (io), 17 P1_2/AN10/~{KI2}/CMP0_2 (io), 18 NC, 19 NC, 20 P4_2/VREF (io), 21 NC, 22 P1_1/AN9/~{KI1}/CMP0_1 (io), 23 P1_0/AN8/~{KI0}/CMP0_0 (io), 24 P3_3/TCIN/~{INT3}/CMP1_0 (io), 25 P3_4/CMP1_1 (io), 26 P3_5/CMP1_2 (io), 27 P3_7/~{CNTR0}/TXD1 (io), 28 ~{RESET} (in)

## R5F21192SP
designator U?
R8C/19 Group Single Chip 16-Bit CMOS MCU, 8K ROM + 1K x2 Data Flash, Standard Version; Published: 30-Oct-2009; DatasheetVersion: Rev.1.40, Apr-2006; PackageVersion: Sep-2005; PackageReference: PLSP0020JB-A; Publisher: Altium Limited; PackageDescription: 20-Pin Plastic Low Profile Shrink SOP, 6.5 x 4.4 x 1.15 mm Body, 0.65 mm Pitch; Code_JEITA: P-LSSOP20-4.4x6.5-0.65; Code_JEDEC: MO-152-AC; ComponentLink1Description: Manufacturer Link; ComponentLink1URL: http://sg.renesas.com/fmwk.jsp?cnt=r8c_family_landing.jsp&fp=/products/mpumcu/r8c_family/; ComponentLink2Description: Datasheet; ComponentLink2URL: http://documentation.renesas.com/eng/products/mpumcu/rej03b0124_r8c1819ds.pdf; ComponentLink3Description: Packaging Specification; ComponentLink3URL: http://sg.renesas.com/media/products/common_info/package/pdf/ic/code/plsp0020jb_a.pdf
footprint PLSP0020JB-A_N (SOP, 20-Leads, Body 6.5x4.4mm, Pitch 0.65mm, IPC Medium Density)
footprint PLSP0020JB-A_L (SOP, 20-Leads, Body 6.5x4.4mm, Pitch 0.65mm, IPC High Density)
footprint PLSP0020JB-A_M (SOP, 20-Leads, Body 6.5x4.4mm, Pitch 0.65mm, IPC Low Density)
pins: 1 P3_5/CMP1_2 (io), 2 P3_7/~{CNTR0}/TXD1 (io), 3 ~{RESET} (in), 4 XOUT/P4_7, 5 VSS/AVSS (power), 6 XIN/P4_6 (in), 7 VCC/AVCC (power), 8 MODE (in), 9 P4_5/~{INT0}/RXD1 (io), 10 P1_7/CNTR00/~{INT10} (io), 11 P1_6/CLK0 (io), 12 P1_5/RXD0/CNTR01/~{INT11} (io), 13 P1_4/TXD0 (io), 14 P1_3/~{KI3}/AN11/TZOUT (io), 15 P1_2/~{KI2}/AN10/CMP0_2 (io), 16 P4_2/VREF (io), 17 P1_1/~{KI1}/AN9/CMP0_1 (io), 18 P1_0/~{KI0}/AN8/CMP0_0 (io), 19 P3_3/TCIN/~{INT3}/CMP1_0 (io), 20 P3_4/CMP1_1 (io)

## R5F21193DD
designator U?
R8C/19 Group Single Chip 16-Bit CMOS MCU, 12K ROM + 1K x2 Data Flash, Standard Version; Published: 30-Oct-2009; DatasheetVersion: Rev.1.40, Apr-2006; PackageVersion: Sep-2005; PackageReference: PRDP0020BA-A; Publisher: Altium Limited; PackageDescription: 20-Pin Plastic Shrink DIP, 19 x 6.3 mm Body, 7.62 mm Row Spacing, 1.778 mm Pitch; Code_JEITA: P-SDIP20-6.3x19-1.78; ComponentLink1Description: Manufacturer Link; ComponentLink1URL: http://sg.renesas.com/fmwk.jsp?cnt=r8c_family_landing.jsp&fp=/products/mpumcu/r8c_family/; ComponentLink2Description: Datasheet; ComponentLink2URL: http://documentation.renesas.com/eng/products/mpumcu/rej03b0124_r8c1819ds.pdf; ComponentLink3Description: Packaging Specification; ComponentLink3URL: http://sg.renesas.com/media/products/common_info/package/pdf/ic/code/prdp0020ba_a.pdf
footprint PRDP0020BA-A (DIP, 20-Leads, Row Spacing 7.62mm, Pitch 1.778mm, Body 19x6.3mm)
pins: 1 P3_5/CMP1_2 (io), 2 P3_7/~{CNTR0}/TXD1 (io), 3 ~{RESET} (in), 4 XOUT/P4_7, 5 VSS/AVSS (power), 6 XIN/P4_6 (in), 7 VCC/AVCC (power), 8 MODE (in), 9 P4_5/~{INT0}/RXD1 (io), 10 P1_7/CNTR00/~{INT10} (io), 11 P1_6/CLK0 (io), 12 P1_5/RXD0/CNTR01/~{INT11} (io), 13 P1_4/TXD0 (io), 14 P1_3/~{KI3}/AN11/TZOUT (io), 15 P1_2/~{KI2}/AN10/CMP0_2 (io), 16 P4_2/VREF (io), 17 P1_1/~{KI1}/AN9/CMP0_1 (io), 18 P1_0/~{KI0}/AN8/CMP0_0 (io), 19 P3_3/TCIN/~{INT3}/CMP1_0 (io), 20 P3_4/CMP1_1 (io)

## R5F21193DSP
designator U?
R8C/19 Group Single Chip 16-Bit CMOS MCU, 12K ROM + 1K x2 Data Flash, D Version; Published: 30-Oct-2009; DatasheetVersion: Rev.1.40, Apr-2006; PackageVersion: Sep-2005; PackageReference: PLSP0020JB-A; Publisher: Altium Limited; PackageDescription: 20-Pin Plastic Low Profile Shrink SOP, 6.5 x 4.4 x 1.15 mm Body, 0.65 mm Pitch; Code_JEITA: P-LSSOP20-4.4x6.5-0.65; Code_JEDEC: MO-152-AC; ComponentLink1Description: Manufacturer Link; ComponentLink1URL: http://sg.renesas.com/fmwk.jsp?cnt=r8c_family_landing.jsp&fp=/products/mpumcu/r8c_family/; ComponentLink2Description: Datasheet; ComponentLink2URL: http://documentation.renesas.com/eng/products/mpumcu/rej03b0124_r8c1819ds.pdf; ComponentLink3Description: Packaging Specification; ComponentLink3URL: http://sg.renesas.com/media/products/common_info/package/pdf/ic/code/plsp0020jb_a.pdf
footprint PLSP0020JB-A_N (SOP, 20-Leads, Body 6.5x4.4mm, Pitch 0.65mm, IPC Medium Density)
footprint PLSP0020JB-A_L (SOP, 20-Leads, Body 6.5x4.4mm, Pitch 0.65mm, IPC High Density)
footprint PLSP0020JB-A_M (SOP, 20-Leads, Body 6.5x4.4mm, Pitch 0.65mm, IPC Low Density)
pins: 1 P3_5/CMP1_2 (io), 2 P3_7/~{CNTR0}/TXD1 (io), 3 ~{RESET} (in), 4 XOUT/P4_7, 5 VSS/AVSS (power), 6 XIN/P4_6 (in), 7 VCC/AVCC (power), 8 MODE (in), 9 P4_5/~{INT0}/RXD1 (io), 10 P1_7/CNTR00/~{INT10} (io), 11 P1_6/CLK0 (io), 12 P1_5/RXD0/CNTR01/~{INT11} (io), 13 P1_4/TXD0 (io), 14 P1_3/~{KI3}/AN11/TZOUT (io), 15 P1_2/~{KI2}/AN10/CMP0_2 (io), 16 P4_2/VREF (io), 17 P1_1/~{KI1}/AN9/CMP0_1 (io), 18 P1_0/~{KI0}/AN8/CMP0_0 (io), 19 P3_3/TCIN/~{INT3}/CMP1_0 (io), 20 P3_4/CMP1_1 (io)

## R5F21193NP
designator U?
R8C/19 Group Single Chip 16-Bit CMOS MCU, 12K ROM + 1K x2 Data Flash, Standard Version; Published: 30-Oct-2009; DatasheetVersion: Rev.1.40, Apr-2006; PackageVersion: Jun-2006; PackageReference: PWQN0028KA-B; Publisher: Altium Limited; PackageDescription: 28-Pin Plastic Very-very Thin QFN, 5 x 5 X 0.75 mm Body, 0.5 mm Pitch, Exposed Pad; Code_JEITA: P-HWQFN28-5x5-0.50; ComponentLink1Description: Manufacturer Link; ComponentLink1URL: http://sg.renesas.com/fmwk.jsp?cnt=r8c_family_landing.jsp&fp=/products/mpumcu/r8c_family/; ComponentLink2Description: Datasheet; ComponentLink2URL: http://documentation.renesas.com/eng/products/mpumcu/rej03b0124_r8c1819ds.pdf; ComponentLink3Description: Packaging Specification; ComponentLink3URL: http://sg.renesas.com/media/products/common_info/package/pdf/ic/code/pwqn0028ka_b.pdf
footprint PWQN0028KA-B_N (QFN, 28-Leads, Body 5x5mm, Pitch 0.5mm, IPC Medium Density)
footprint PWQN0028KA-B_L (QFN, 28-Leads, Body 5x5mm, Pitch 0.5mm, IPC High Density)
footprint PWQN0028KA-B_M (QFN, 28-Leads, Body 5x5mm, Pitch 0.5mm, IPC Low Density)
pins: 1 NC, 2 XOUT/P4_7, 3 VSS/AVSS (power), 4 NC, 5 NC, 6 XIN/P4_6 (in), 7 NC, 8 VCC/AVCC (power), 9 MODE (in), 10 P4_5/~{INT0}/RXD1 (io), 11 P1_7/CNTR00/~{INT10} (io), 12 P1_6/CLK0 (io), 13 P1_5/RXD0/CNTR01/~{INT11} (io), 14 P1_4/TXD0 (io), 15 NC, 16 P1_3/AN11/~{KI3}/TZOUT (io), 17 P1_2/AN10/~{KI2}/CMP0_2 (io), 18 NC, 19 NC, 20 P4_2/VREF (io), 21 NC, 22 P1_1/AN9/~{KI1}/CMP0_1 (io), 23 P1_0/AN8/~{KI0}/CMP0_0 (io), 24 P3_3/TCIN/~{INT3}/CMP1_0 (io), 25 P3_4/CMP1_1 (io), 26 P3_5/CMP1_2 (io), 27 P3_7/~{CNTR0}/TXD1 (io), 28 ~{RESET} (in)

## R5F21193SP
designator U?
R8C/19 Group Single Chip 16-Bit CMOS MCU, 12K ROM + 1K x2 Data Flash, Standard Version; Published: 30-Oct-2009; DatasheetVersion: Rev.1.40, Apr-2006; PackageVersion: Sep-2005; PackageReference: PLSP0020JB-A; Publisher: Altium Limited; PackageDescription: 20-Pin Plastic Low Profile Shrink SOP, 6.5 x 4.4 x 1.15 mm Body, 0.65 mm Pitch; Code_JEITA: P-LSSOP20-4.4x6.5-0.65; Code_JEDEC: MO-152-AC; ComponentLink1Description: Manufacturer Link; ComponentLink1URL: http://sg.renesas.com/fmwk.jsp?cnt=r8c_family_landing.jsp&fp=/products/mpumcu/r8c_family/; ComponentLink2Description: Datasheet; ComponentLink2URL: http://documentation.renesas.com/eng/products/mpumcu/rej03b0124_r8c1819ds.pdf; ComponentLink3Description: Packaging Specification; ComponentLink3URL: http://sg.renesas.com/media/products/common_info/package/pdf/ic/code/plsp0020jb_a.pdf
footprint PLSP0020JB-A_N (SOP, 20-Leads, Body 6.5x4.4mm, Pitch 0.65mm, IPC Medium Density)
footprint PLSP0020JB-A_L (SOP, 20-Leads, Body 6.5x4.4mm, Pitch 0.65mm, IPC High Density)
footprint PLSP0020JB-A_M (SOP, 20-Leads, Body 6.5x4.4mm, Pitch 0.65mm, IPC Low Density)
pins: 1 P3_5/CMP1_2 (io), 2 P3_7/~{CNTR0}/TXD1 (io), 3 ~{RESET} (in), 4 XOUT/P4_7, 5 VSS/AVSS (power), 6 XIN/P4_6 (in), 7 VCC/AVCC (power), 8 MODE (in), 9 P4_5/~{INT0}/RXD1 (io), 10 P1_7/CNTR00/~{INT10} (io), 11 P1_6/CLK0 (io), 12 P1_5/RXD0/CNTR01/~{INT11} (io), 13 P1_4/TXD0 (io), 14 P1_3/~{KI3}/AN11/TZOUT (io), 15 P1_2/~{KI2}/AN10/CMP0_2 (io), 16 P4_2/VREF (io), 17 P1_1/~{KI1}/AN9/CMP0_1 (io), 18 P1_0/~{KI0}/AN8/CMP0_0 (io), 19 P3_3/TCIN/~{INT3}/CMP1_0 (io), 20 P3_4/CMP1_1 (io)

## R5F21194DD
designator U?
R8C/19 Group Single Chip 16-Bit CMOS MCU, 16K ROM + 1K x2 Data Flash, Standard Version; Published: 30-Oct-2009; DatasheetVersion: Rev.1.40, Apr-2006; PackageVersion: Sep-2005; PackageReference: PRDP0020BA-A; Publisher: Altium Limited; PackageDescription: 20-Pin Plastic Shrink DIP, 19 x 6.3 mm Body, 7.62 mm Row Spacing, 1.778 mm Pitch; Code_JEITA: P-SDIP20-6.3x19-1.78; ComponentLink1Description: Manufacturer Link; ComponentLink1URL: http://sg.renesas.com/fmwk.jsp?cnt=r8c_family_landing.jsp&fp=/products/mpumcu/r8c_family/; ComponentLink2Description: Datasheet; ComponentLink2URL: http://documentation.renesas.com/eng/products/mpumcu/rej03b0124_r8c1819ds.pdf; ComponentLink3Description: Packaging Specification; ComponentLink3URL: http://sg.renesas.com/media/products/common_info/package/pdf/ic/code/prdp0020ba_a.pdf
footprint PRDP0020BA-A (DIP, 20-Leads, Row Spacing 7.62mm, Pitch 1.778mm, Body 19x6.3mm)
pins: 1 P3_5/CMP1_2 (io), 2 P3_7/~{CNTR0}/TXD1 (io), 3 ~{RESET} (in), 4 XOUT/P4_7, 5 VSS/AVSS (power), 6 XIN/P4_6 (in), 7 VCC/AVCC (power), 8 MODE (in), 9 P4_5/~{INT0}/RXD1 (io), 10 P1_7/CNTR00/~{INT10} (io), 11 P1_6/CLK0 (io), 12 P1_5/RXD0/CNTR01/~{INT11} (io), 13 P1_4/TXD0 (io), 14 P1_3/~{KI3}/AN11/TZOUT (io), 15 P1_2/~{KI2}/AN10/CMP0_2 (io), 16 P4_2/VREF (io), 17 P1_1/~{KI1}/AN9/CMP0_1 (io), 18 P1_0/~{KI0}/AN8/CMP0_0 (io), 19 P3_3/TCIN/~{INT3}/CMP1_0 (io), 20 P3_4/CMP1_1 (io)

## R5F21194DSP
designator U?
R8C/19 Group Single Chip 16-Bit CMOS MCU, 16K ROM + 1K x2 Data Flash, D Version; Published: 30-Oct-2009; DatasheetVersion: Rev.1.40, Apr-2006; PackageVersion: Sep-2005; PackageReference: PLSP0020JB-A; Publisher: Altium Limited; PackageDescription: 20-Pin Plastic Low Profile Shrink SOP, 6.5 x 4.4 x 1.15 mm Body, 0.65 mm Pitch; Code_JEITA: P-LSSOP20-4.4x6.5-0.65; Code_JEDEC: MO-152-AC; ComponentLink1Description: Manufacturer Link; ComponentLink1URL: http://sg.renesas.com/fmwk.jsp?cnt=r8c_family_landing.jsp&fp=/products/mpumcu/r8c_family/; ComponentLink2Description: Datasheet; ComponentLink2URL: http://documentation.renesas.com/eng/products/mpumcu/rej03b0124_r8c1819ds.pdf; ComponentLink3Description: Packaging Specification; ComponentLink3URL: http://sg.renesas.com/media/products/common_info/package/pdf/ic/code/plsp0020jb_a.pdf
footprint PLSP0020JB-A_N (SOP, 20-Leads, Body 6.5x4.4mm, Pitch 0.65mm, IPC Medium Density)
footprint PLSP0020JB-A_L (SOP, 20-Leads, Body 6.5x4.4mm, Pitch 0.65mm, IPC High Density)
footprint PLSP0020JB-A_M (SOP, 20-Leads, Body 6.5x4.4mm, Pitch 0.65mm, IPC Low Density)
pins: 1 P3_5/CMP1_2 (io), 2 P3_7/~{CNTR0}/TXD1 (io), 3 ~{RESET} (in), 4 XOUT/P4_7, 5 VSS/AVSS (power), 6 XIN/P4_6 (in), 7 VCC/AVCC (power), 8 MODE (in), 9 P4_5/~{INT0}/RXD1 (io), 10 P1_7/CNTR00/~{INT10} (io), 11 P1_6/CLK0 (io), 12 P1_5/RXD0/CNTR01/~{INT11} (io), 13 P1_4/TXD0 (io), 14 P1_3/~{KI3}/AN11/TZOUT (io), 15 P1_2/~{KI2}/AN10/CMP0_2 (io), 16 P4_2/VREF (io), 17 P1_1/~{KI1}/AN9/CMP0_1 (io), 18 P1_0/~{KI0}/AN8/CMP0_0 (io), 19 P3_3/TCIN/~{INT3}/CMP1_0 (io), 20 P3_4/CMP1_1 (io)

## R5F21194NP
designator U?
R8C/19 Group Single Chip 16-Bit CMOS MCU, 16K ROM + 1K x2 Data Flash, Standard Version; Published: 30-Oct-2009; DatasheetVersion: Rev.1.40, Apr-2006; PackageVersion: Jun-2006; PackageReference: PWQN0028KA-B; Publisher: Altium Limited; PackageDescription: 28-Pin Plastic Very-very Thin QFN, 5 x 5 X 0.75 mm Body, 0.5 mm Pitch, Exposed Pad; Code_JEITA: P-HWQFN28-5x5-0.50; ComponentLink1Description: Manufacturer Link; ComponentLink1URL: http://sg.renesas.com/fmwk.jsp?cnt=r8c_family_landing.jsp&fp=/products/mpumcu/r8c_family/; ComponentLink2Description: Datasheet; ComponentLink2URL: http://documentation.renesas.com/eng/products/mpumcu/rej03b0124_r8c1819ds.pdf; ComponentLink3Description: Packaging Specification; ComponentLink3URL: http://sg.renesas.com/media/products/common_info/package/pdf/ic/code/pwqn0028ka_b.pdf
footprint PWQN0028KA-B_N (QFN, 28-Leads, Body 5x5mm, Pitch 0.5mm, IPC Medium Density)
footprint PWQN0028KA-B_L (QFN, 28-Leads, Body 5x5mm, Pitch 0.5mm, IPC High Density)
footprint PWQN0028KA-B_M (QFN, 28-Leads, Body 5x5mm, Pitch 0.5mm, IPC Low Density)
pins: 1 NC, 2 XOUT/P4_7, 3 VSS/AVSS (power), 4 NC, 5 NC, 6 XIN/P4_6 (in), 7 NC, 8 VCC/AVCC (power), 9 MODE (in), 10 P4_5/~{INT0}/RXD1 (io), 11 P1_7/CNTR00/~{INT10} (io), 12 P1_6/CLK0 (io), 13 P1_5/RXD0/CNTR01/~{INT11} (io), 14 P1_4/TXD0 (io), 15 NC, 16 P1_3/AN11/~{KI3}/TZOUT (io), 17 P1_2/AN10/~{KI2}/CMP0_2 (io), 18 NC, 19 NC, 20 P4_2/VREF (io), 21 NC, 22 P1_1/AN9/~{KI1}/CMP0_1 (io), 23 P1_0/AN8/~{KI0}/CMP0_0 (io), 24 P3_3/TCIN/~{INT3}/CMP1_0 (io), 25 P3_4/CMP1_1 (io), 26 P3_5/CMP1_2 (io), 27 P3_7/~{CNTR0}/TXD1 (io), 28 ~{RESET} (in)

## R5F21194SP
designator U?
R8C/19 Group Single Chip 16-Bit CMOS MCU, 16K ROM + 1K x2 Data Flash, Standard Version; Published: 30-Oct-2009; DatasheetVersion: Rev.1.40, Apr-2006; PackageVersion: Sep-2005; PackageReference: PLSP0020JB-A; Publisher: Altium Limited; PackageDescription: 20-Pin Plastic Low Profile Shrink SOP, 6.5 x 4.4 x 1.15 mm Body, 0.65 mm Pitch; Code_JEITA: P-LSSOP20-4.4x6.5-0.65; Code_JEDEC: MO-152-AC; ComponentLink1Description: Manufacturer Link; ComponentLink1URL: http://sg.renesas.com/fmwk.jsp?cnt=r8c_family_landing.jsp&fp=/products/mpumcu/r8c_family/; ComponentLink2Description: Datasheet; ComponentLink2URL: http://documentation.renesas.com/eng/products/mpumcu/rej03b0124_r8c1819ds.pdf; ComponentLink3Description: Packaging Specification; ComponentLink3URL: http://sg.renesas.com/media/products/common_info/package/pdf/ic/code/plsp0020jb_a.pdf
footprint PLSP0020JB-A_N (SOP, 20-Leads, Body 6.5x4.4mm, Pitch 0.65mm, IPC Medium Density)
footprint PLSP0020JB-A_L (SOP, 20-Leads, Body 6.5x4.4mm, Pitch 0.65mm, IPC High Density)
footprint PLSP0020JB-A_M (SOP, 20-Leads, Body 6.5x4.4mm, Pitch 0.65mm, IPC Low Density)
pins: 1 P3_5/CMP1_2 (io), 2 P3_7/~{CNTR0}/TXD1 (io), 3 ~{RESET} (in), 4 XOUT/P4_7, 5 VSS/AVSS (power), 6 XIN/P4_6 (in), 7 VCC/AVCC (power), 8 MODE (in), 9 P4_5/~{INT0}/RXD1 (io), 10 P1_7/CNTR00/~{INT10} (io), 11 P1_6/CLK0 (io), 12 P1_5/RXD0/CNTR01/~{INT11} (io), 13 P1_4/TXD0 (io), 14 P1_3/~{KI3}/AN11/TZOUT (io), 15 P1_2/~{KI2}/AN10/CMP0_2 (io), 16 P4_2/VREF (io), 17 P1_1/~{KI1}/AN9/CMP0_1 (io), 18 P1_0/~{KI0}/AN8/CMP0_0 (io), 19 P3_3/TCIN/~{INT3}/CMP1_0 (io), 20 P3_4/CMP1_1 (io)

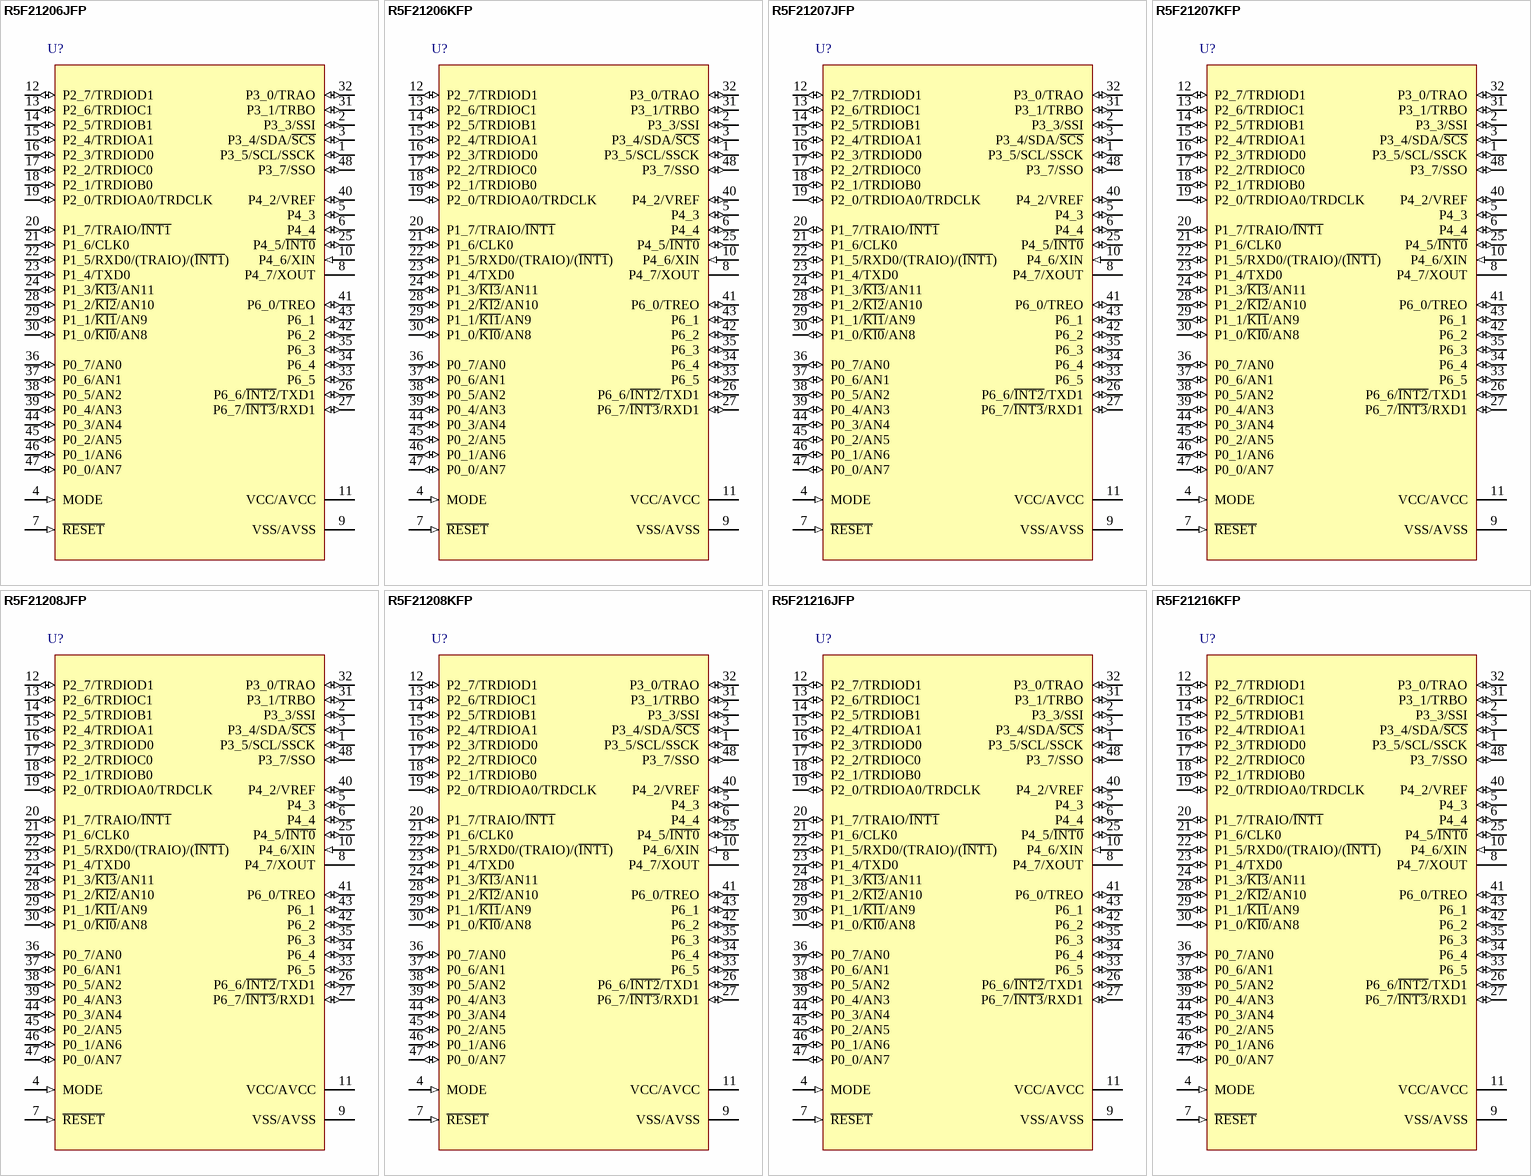
[diagram p79: symbols R5F21206JFP to R5F21216KFP]

## R5F21206JFP
designator U?
R8C/20 Group Single Chip 16-Bit CMOS MCU, 32K ROM, 2K RAM, J Version; Published: 30-Oct-2009; DatasheetVersion: Rev.2.00, Aug-2008; PackageVersion: Oct-2005; PackageReference: PLQP0048KB-A; Publisher: Altium Limited; PackageDescription: 48-Pin Plastic Low Profile QFP, 7 x 7 x 1.4 mm Body, 0.5 mm Pitch; Code_JEITA: P-LQFP48-7x7-0.50; Code_IPC: SQFP50P900X900-48; ComponentLink1Description: Manufacturer Link; ComponentLink1URL: http://sg.renesas.com/fmwk.jsp?cnt=r8c_family_landing.jsp&fp=/products/mpumcu/r8c_family/; ComponentLink2Description: Datasheet; ComponentLink2URL: http://documentation.renesas.com/eng/products/mpumcu/rej03b0120_r8c2021ds.pdf; ComponentLink3Description: Packaging Specification; ComponentLink3URL: http://sg.renesas.com/media/products/common_info/package/pdf/ic/code/plqp0048kb_a.pdf
footprint PLQP0048KB-A_N (Shrink QFP, 48-Leads, Body 7x7mm, Pitch 0.5mm, IPC Medium Density)
footprint PLQP0048KB-A_L (Shrink QFP, 48-Leads, Body 7x7mm, Pitch 0.5mm, IPC High Density)
footprint PLQP0048KB-A_M (Shrink QFP, 48-Leads, Body 7x7mm, Pitch 0.5mm, IPC Low Density)
pins: 1 P3_5/SCL/SSCK (io), 2 P3_3/SSI (io), 3 P3_4/SDA/~{SCS} (io), 4 MODE (in), 5 P4_3 (io), 6 P4_4 (io), 7 ~{RESET} (in), 8 P4_7/XOUT, 9 VSS/AVSS (power), 10 P4_6/XIN (in), 11 VCC/AVCC (power), 12 P2_7/TRDIOD1 (io), 13 P2_6/TRDIOC1 (io), 14 P2_5/TRDIOB1 (io), 15 P2_4/TRDIOA1 (io), 16 P2_3/TRDIOD0 (io), 17 P2_2/TRDIOC0 (io), 18 P2_1/TRDIOB0 (io), 19 P2_0/TRDIOA0/TRDCLK (io), 20 P1_7/TRAIO/~{INT1} (io), 21 P1_6/CLK0 (io), 22 P1_5/RXD0/(TRAIO)/(~{INT1}) (io), 23 P1_4/TXD0 (io), 24 P1_3/~{KI3}/AN11 (io), 25 P4_5/~{INT0} (io), 26 P6_6/~{INT2}/TXD1 (io), 27 P6_7/~{INT3}/RXD1 (io), 28 P1_2/~{KI2}/AN10 (io), 29 P1_1/~{KI1}/AN9 (io), 30 P1_0/~{KI0}/AN8 (io), 31 P3_1/TRBO (io), 32 P3_0/TRAO (io), 33 P6_5 (io), 34 P6_4 (io), 35 P6_3 (io), 36 P0_7/AN0 (io), 37 P0_6/AN1 (io), 38 P0_5/AN2 (io), 39 P0_4/AN3 (io), 40 P4_2/VREF (io), 41 P6_0/TREO (io), 42 P6_2 (io), 43 P6_1 (io), 44 P0_3/AN4 (io), 45 P0_2/AN5 (io), 46 P0_1/AN6 (io), 47 P0_0/AN7 (io), 48 P3_7/SSO (io)

## R5F21206KFP
designator U?
R8C/20 Group Single Chip 16-Bit CMOS MCU, 32K ROM, 2K RAM, K Version; Published: 30-Oct-2009; DatasheetVersion: Rev.2.00, Aug-2008; PackageVersion: Oct-2005; PackageReference: PLQP0048KB-A; Publisher: Altium Limited; PackageDescription: 48-Pin Plastic Low Profile QFP, 7 x 7 x 1.4 mm Body, 0.5 mm Pitch; Code_JEITA: P-LQFP48-7x7-0.50; Code_IPC: SQFP50P900X900-48; ComponentLink1Description: Manufacturer Link; ComponentLink1URL: http://sg.renesas.com/fmwk.jsp?cnt=r8c_family_landing.jsp&fp=/products/mpumcu/r8c_family/; ComponentLink2Description: Datasheet; ComponentLink2URL: http://documentation.renesas.com/eng/products/mpumcu/rej03b0120_r8c2021ds.pdf; ComponentLink3Description: Packaging Specification; ComponentLink3URL: http://sg.renesas.com/media/products/common_info/package/pdf/ic/code/plqp0048kb_a.pdf
footprint PLQP0048KB-A_N (Shrink QFP, 48-Leads, Body 7x7mm, Pitch 0.5mm, IPC Medium Density)
footprint PLQP0048KB-A_L (Shrink QFP, 48-Leads, Body 7x7mm, Pitch 0.5mm, IPC High Density)
footprint PLQP0048KB-A_M (Shrink QFP, 48-Leads, Body 7x7mm, Pitch 0.5mm, IPC Low Density)
pins: 1 P3_5/SCL/SSCK (io), 2 P3_3/SSI (io), 3 P3_4/SDA/~{SCS} (io), 4 MODE (in), 5 P4_3 (io), 6 P4_4 (io), 7 ~{RESET} (in), 8 P4_7/XOUT, 9 VSS/AVSS (power), 10 P4_6/XIN (in), 11 VCC/AVCC (power), 12 P2_7/TRDIOD1 (io), 13 P2_6/TRDIOC1 (io), 14 P2_5/TRDIOB1 (io), 15 P2_4/TRDIOA1 (io), 16 P2_3/TRDIOD0 (io), 17 P2_2/TRDIOC0 (io), 18 P2_1/TRDIOB0 (io), 19 P2_0/TRDIOA0/TRDCLK (io), 20 P1_7/TRAIO/~{INT1} (io), 21 P1_6/CLK0 (io), 22 P1_5/RXD0/(TRAIO)/(~{INT1}) (io), 23 P1_4/TXD0 (io), 24 P1_3/~{KI3}/AN11 (io), 25 P4_5/~{INT0} (io), 26 P6_6/~{INT2}/TXD1 (io), 27 P6_7/~{INT3}/RXD1 (io), 28 P1_2/~{KI2}/AN10 (io), 29 P1_1/~{KI1}/AN9 (io), 30 P1_0/~{KI0}/AN8 (io), 31 P3_1/TRBO (io), 32 P3_0/TRAO (io), 33 P6_5 (io), 34 P6_4 (io), 35 P6_3 (io), 36 P0_7/AN0 (io), 37 P0_6/AN1 (io), 38 P0_5/AN2 (io), 39 P0_4/AN3 (io), 40 P4_2/VREF (io), 41 P6_0/TREO (io), 42 P6_2 (io), 43 P6_1 (io), 44 P0_3/AN4 (io), 45 P0_2/AN5 (io), 46 P0_1/AN6 (io), 47 P0_0/AN7 (io), 48 P3_7/SSO (io)

## R5F21207JFP
designator U?
R8C/20 Group Single Chip 16-Bit CMOS MCU, 48K ROM, 2.5K RAM, J Version; Published: 30-Oct-2009; DatasheetVersion: Rev.2.00, Aug-2008; PackageVersion: Oct-2005; PackageReference: PLQP0048KB-A; Publisher: Altium Limited; PackageDescription: 48-Pin Plastic Low Profile QFP, 7 x 7 x 1.4 mm Body, 0.5 mm Pitch; Code_JEITA: P-LQFP48-7x7-0.50; Code_IPC: SQFP50P900X900-48; ComponentLink1Description: Manufacturer Link; ComponentLink1URL: http://sg.renesas.com/fmwk.jsp?cnt=r8c_family_landing.jsp&fp=/products/mpumcu/r8c_family/; ComponentLink2Description: Datasheet; ComponentLink2URL: http://documentation.renesas.com/eng/products/mpumcu/rej03b0120_r8c2021ds.pdf; ComponentLink3Description: Packaging Specification; ComponentLink3URL: http://sg.renesas.com/media/products/common_info/package/pdf/ic/code/plqp0048kb_a.pdf
footprint PLQP0048KB-A_N (Shrink QFP, 48-Leads, Body 7x7mm, Pitch 0.5mm, IPC Medium Density)
footprint PLQP0048KB-A_L (Shrink QFP, 48-Leads, Body 7x7mm, Pitch 0.5mm, IPC High Density)
footprint PLQP0048KB-A_M (Shrink QFP, 48-Leads, Body 7x7mm, Pitch 0.5mm, IPC Low Density)
pins: 1 P3_5/SCL/SSCK (io), 2 P3_3/SSI (io), 3 P3_4/SDA/~{SCS} (io), 4 MODE (in), 5 P4_3 (io), 6 P4_4 (io), 7 ~{RESET} (in), 8 P4_7/XOUT, 9 VSS/AVSS (power), 10 P4_6/XIN (in), 11 VCC/AVCC (power), 12 P2_7/TRDIOD1 (io), 13 P2_6/TRDIOC1 (io), 14 P2_5/TRDIOB1 (io), 15 P2_4/TRDIOA1 (io), 16 P2_3/TRDIOD0 (io), 17 P2_2/TRDIOC0 (io), 18 P2_1/TRDIOB0 (io), 19 P2_0/TRDIOA0/TRDCLK (io), 20 P1_7/TRAIO/~{INT1} (io), 21 P1_6/CLK0 (io), 22 P1_5/RXD0/(TRAIO)/(~{INT1}) (io), 23 P1_4/TXD0 (io), 24 P1_3/~{KI3}/AN11 (io), 25 P4_5/~{INT0} (io), 26 P6_6/~{INT2}/TXD1 (io), 27 P6_7/~{INT3}/RXD1 (io), 28 P1_2/~{KI2}/AN10 (io), 29 P1_1/~{KI1}/AN9 (io), 30 P1_0/~{KI0}/AN8 (io), 31 P3_1/TRBO (io), 32 P3_0/TRAO (io), 33 P6_5 (io), 34 P6_4 (io), 35 P6_3 (io), 36 P0_7/AN0 (io), 37 P0_6/AN1 (io), 38 P0_5/AN2 (io), 39 P0_4/AN3 (io), 40 P4_2/VREF (io), 41 P6_0/TREO (io), 42 P6_2 (io), 43 P6_1 (io), 44 P0_3/AN4 (io), 45 P0_2/AN5 (io), 46 P0_1/AN6 (io), 47 P0_0/AN7 (io), 48 P3_7/SSO (io)

## R5F21207KFP
designator U?
R8C/20 Group Single Chip 16-Bit CMOS MCU, 48K ROM, 2.5K RAM, K Version; Published: 30-Oct-2009; DatasheetVersion: Rev.2.00, Aug-2008; PackageVersion: Oct-2005; PackageReference: PLQP0048KB-A; Publisher: Altium Limited; PackageDescription: 48-Pin Plastic Low Profile QFP, 7 x 7 x 1.4 mm Body, 0.5 mm Pitch; Code_JEITA: P-LQFP48-7x7-0.50; Code_IPC: SQFP50P900X900-48; ComponentLink1Description: Manufacturer Link; ComponentLink1URL: http://sg.renesas.com/fmwk.jsp?cnt=r8c_family_landing.jsp&fp=/products/mpumcu/r8c_family/; ComponentLink2Description: Datasheet; ComponentLink2URL: http://documentation.renesas.com/eng/products/mpumcu/rej03b0120_r8c2021ds.pdf; ComponentLink3Description: Packaging Specification; ComponentLink3URL: http://sg.renesas.com/media/products/common_info/package/pdf/ic/code/plqp0048kb_a.pdf
footprint PLQP0048KB-A_N (Shrink QFP, 48-Leads, Body 7x7mm, Pitch 0.5mm, IPC Medium Density)
footprint PLQP0048KB-A_L (Shrink QFP, 48-Leads, Body 7x7mm, Pitch 0.5mm, IPC High Density)
footprint PLQP0048KB-A_M (Shrink QFP, 48-Leads, Body 7x7mm, Pitch 0.5mm, IPC Low Density)
pins: 1 P3_5/SCL/SSCK (io), 2 P3_3/SSI (io), 3 P3_4/SDA/~{SCS} (io), 4 MODE (in), 5 P4_3 (io), 6 P4_4 (io), 7 ~{RESET} (in), 8 P4_7/XOUT, 9 VSS/AVSS (power), 10 P4_6/XIN (in), 11 VCC/AVCC (power), 12 P2_7/TRDIOD1 (io), 13 P2_6/TRDIOC1 (io), 14 P2_5/TRDIOB1 (io), 15 P2_4/TRDIOA1 (io), 16 P2_3/TRDIOD0 (io), 17 P2_2/TRDIOC0 (io), 18 P2_1/TRDIOB0 (io), 19 P2_0/TRDIOA0/TRDCLK (io), 20 P1_7/TRAIO/~{INT1} (io), 21 P1_6/CLK0 (io), 22 P1_5/RXD0/(TRAIO)/(~{INT1}) (io), 23 P1_4/TXD0 (io), 24 P1_3/~{KI3}/AN11 (io), 25 P4_5/~{INT0} (io), 26 P6_6/~{INT2}/TXD1 (io), 27 P6_7/~{INT3}/RXD1 (io), 28 P1_2/~{KI2}/AN10 (io), 29 P1_1/~{KI1}/AN9 (io), 30 P1_0/~{KI0}/AN8 (io), 31 P3_1/TRBO (io), 32 P3_0/TRAO (io), 33 P6_5 (io), 34 P6_4 (io), 35 P6_3 (io), 36 P0_7/AN0 (io), 37 P0_6/AN1 (io), 38 P0_5/AN2 (io), 39 P0_4/AN3 (io), 40 P4_2/VREF (io), 41 P6_0/TREO (io), 42 P6_2 (io), 43 P6_1 (io), 44 P0_3/AN4 (io), 45 P0_2/AN5 (io), 46 P0_1/AN6 (io), 47 P0_0/AN7 (io), 48 P3_7/SSO (io)